# EAGLE library part PIC16C616 (library Oles komponentbibliotek)
EPROM-Based 8-Bit CMOS Microcontrollers
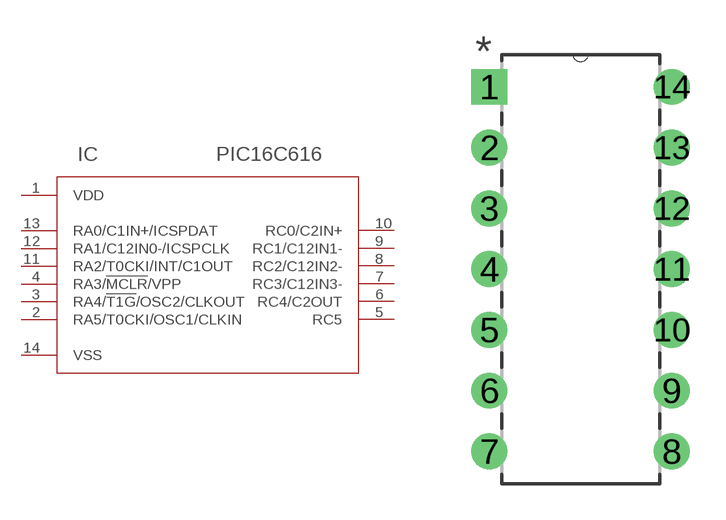
[diagram p1: symbol with the pads of DIP254P762X432-14; footprint DIP254P762X432-14]

Designator prefix IC

## PIC16C616 (MPN: PIC16C610; OC_NEWARK: -; PACKAGE: PDIP-14; SUPPLIER: Microchip)  [DIP254P762X432-14]
1  VDD  pwr
2  RA5/T0CKI/OSC1/CLKIN
3  RA4/!T1G!/OSC2/CLKOUT  in
4  RA3/!MCLR!/VPP  in
5  RC5
6  RC4/C2OUT
7  RC3/C12IN3-
8  RC2/C12IN2-
9  RC1/C12IN1-
10  RC0/C2IN+
11  RA2/T0CKI/INT/C1OUT
12  RA1/C12IN0-/ICSPCLK
13  RA0/C1IN+/ICSPDAT
14  VSS  pwr

## Footprint DIP254P762X432-14 (pad centres in mm)
drill 0.991 square: 1 -7.62,20.32
drill 0.991: 2 -7.62,17.78; 3 -7.62,15.24; 4 -7.62,12.7; 5 -7.62,10.16; 6 -7.62,7.62; 7 -7.62,5.08; 8 0,5.08; 9 0,7.62; 10 0,10.16; 11 0,12.7; 12 0,15.24; 13 0,17.78; 14 0,20.32